# EAGLE library part MN310 (library ic-bbd)
Clock Driver for BBD
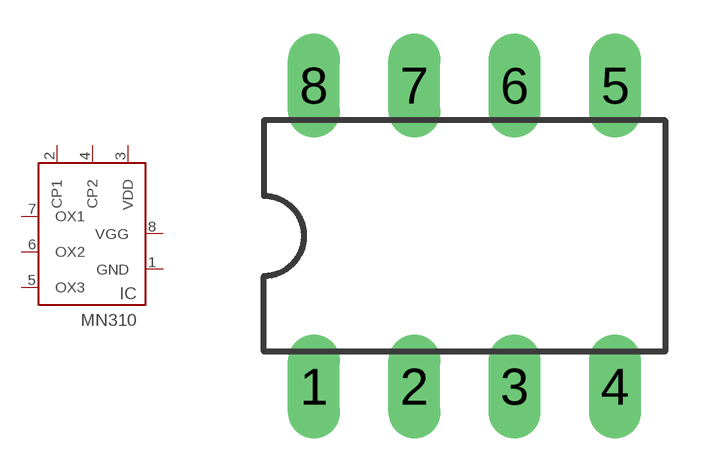
[diagram p9: symbol with the pads of DIL-08; footprint DIL-08]

Designator prefix IC

## MN3101  [DIL-08]
1  GND
2  CP1
3  VDD
4  CP2
5  OX3
6  OX2
7  OX1
8  VGG

## MN3102  [DIL-08]
1  VDD
2  CP1
3  GND
4  CP2
5  OX3
6  OX2
7  OX1
8  VGG

## MN3105  [DIL-08]
Pads as for DIL-08

## Footprint DIL-08 (pad centres in mm)
Dual In Line Package
drill 0.813 long: 1 -3.81,-3.81; 2 -1.27,-3.81; 3 1.27,-3.81; 4 3.81,-3.81; 5 3.81,3.81; 6 1.27,3.81; 7 -1.27,3.81; 8 -3.81,3.81